# Altium footprint library UCC28180-V04.PcbLib: 54 footprints (part 1 of 4)
Each footprint in its own frame and in the unit in brackets; x right, y up, seen from the top. Pads: shape width x height; smd on the part's side, far side on the other; paste and mask are expansions set on the pad; w line width, h text height; cw(c..) or ccw(c..) is an arc to the next point about the centre after c.
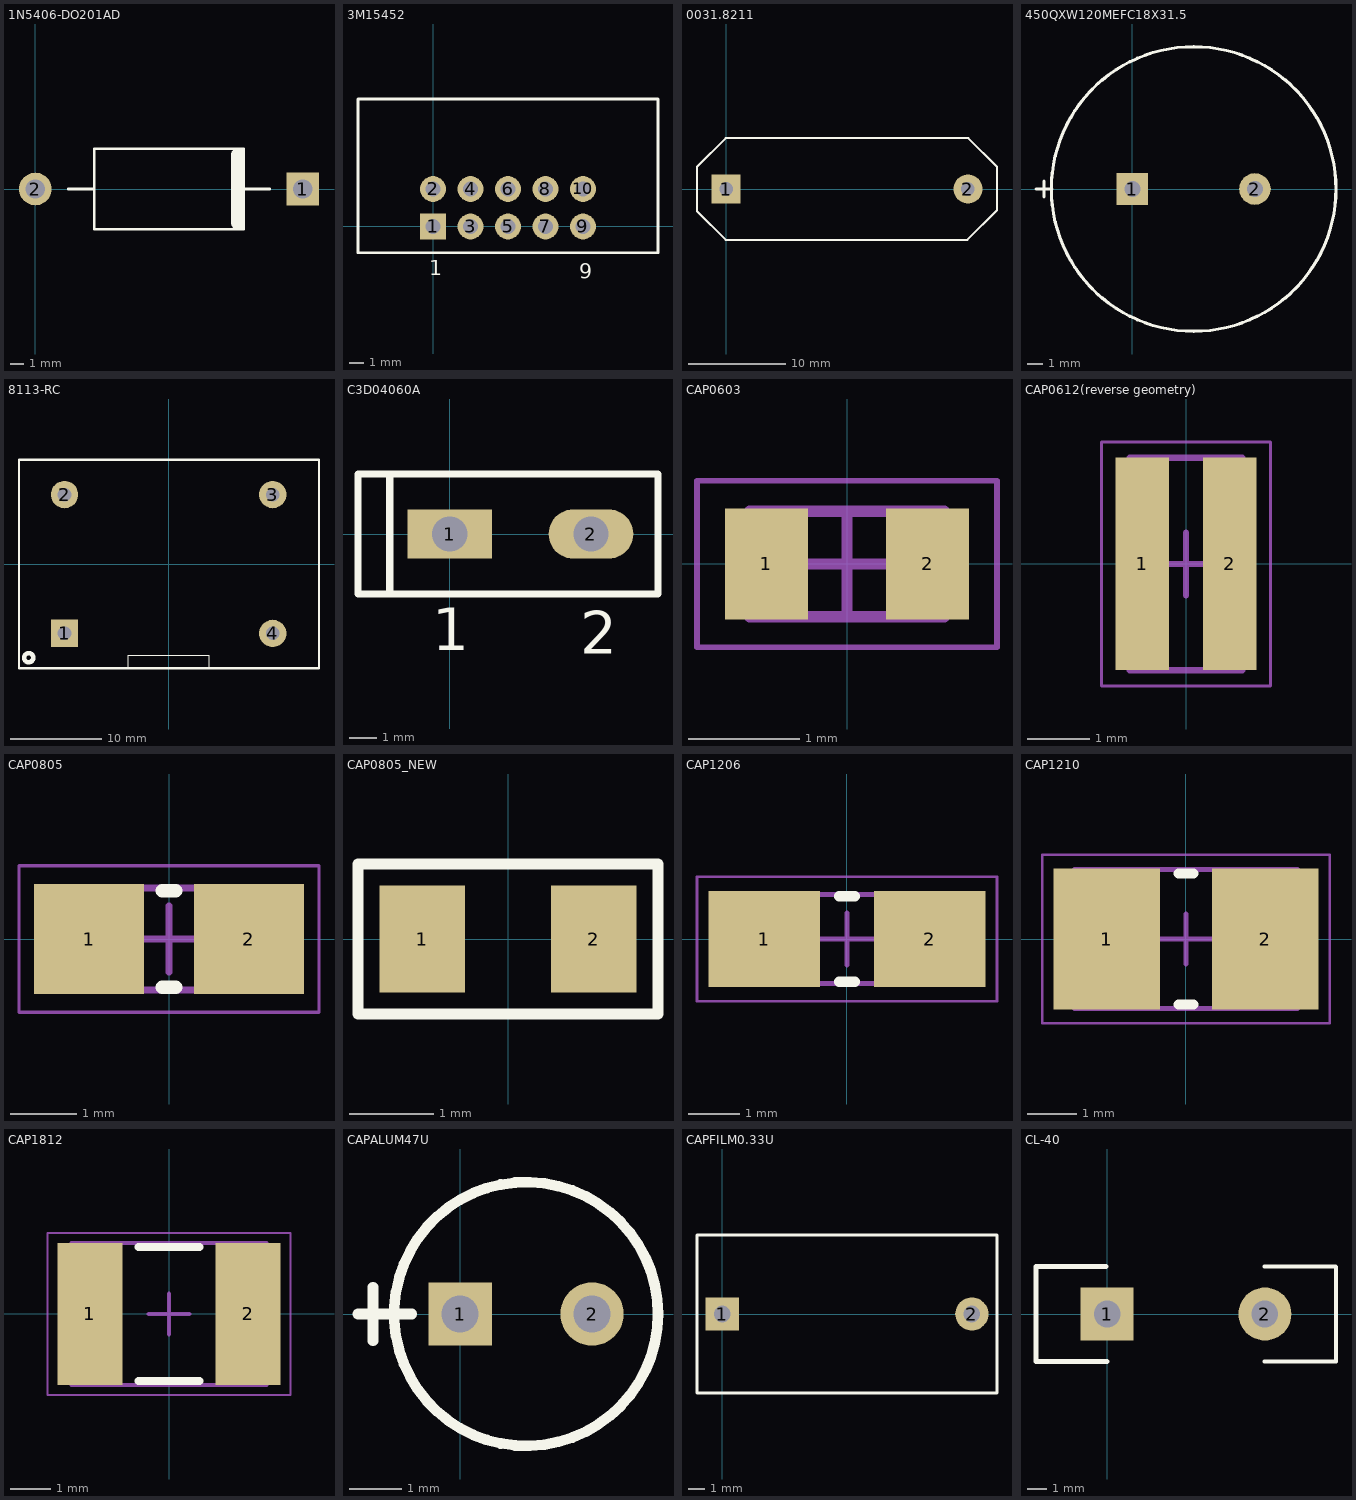
[diagram p0: the footprints below, top view; thin cyan lines are the x and y axes]

## 1N5406-DO201AD [mm] "Diode"
pads (2):
  rect 2.45x2.45 hole 1.45: 1(20,0)
  round 2.45 hole 1.45: 2(0,0)
Top Overlay:
  lines w0.2: 2.45,0 4.4,0 ; 15.6,0 17.55,0 ; 4.4,0 4.4,3 15.6,3 15.6,-3 4.4,-3 4.4,0
  lines w1: 15.15,-2.543 15.15,2.565

## 3M15452 [mm] "CONN HEADER 10POS DL R/A GOLD"
pads (10):
  rect 1.75x1.75 hole 1: 1(0,0)
  round 1.75 hole 1: 2(0,2.54) 3(2.54,0) 4(2.54,2.54) 5(5.08,0) 6(5.08,2.54) 7(7.62,0) 8(7.62,2.54) 9(10.16,0) 10(10.16,2.54)
Top Overlay:
  lines w0.2: -5.08,-1.778 15.24,-1.778 15.24,8.636 -5.08,8.636 -5.08,-1.778
  text "1" at -0.254,-3.302 h1.02
  text "9" at 9.906,-3.556 h1.02

## 0031.8211 [mm] "Fuse Holder"
height 10
pads (2):
  rect 3x3 hole 1.4: 1(0,0)
  round 3 hole 1.4: 2(25,0)
Top Overlay:
  lines w0.2: -3,-2.3 -3,-1 -3,2.3 -0.05,5.25 14.8,5.25 25.05,5.25 28,2.3 28,2 28,-2.2 24.95,-5.25 20,-5.25 5,-5.25 -0.05,-5.25 -3,-2.3
3D body "696103201002.stp": height 11.51, standoff -4.09, extent 0.803,-4.623 24.902,4.977

## 450QXW120MEFC18X31.5 [mm] "Radial Electrolytic Capacitor"
pads (2):
  rect 2x2 hole 1: 1(0,0)
  round 2 hole 1: 2(7.75,0)
Top Overlay:
  circle w0.2: c3.875,0 r9
  lines w0.2: -6.096,0 -5.08,0 ; -5.588,-0.508 -5.588,0.508
3D body "G-18X40.stp": height 39.75, standoff -27.28, extent -5.239,-9.25 12.961,8.945

## 8113-RC [mm] "EMI Choke"
pads (4):
  rect 3x3 hole 1.5: 1(-11.43,-7.62)
  round 3 hole 1.5: 2(-11.43,7.62) 3(11.43,7.62) 4(11.43,-7.62)
Top Overlay:
  circle w0.5: c-15.367,-10.287 r0.5
  lines w0.08: -4.445,-11.43 -4.445,-10.033 0.127,-10.033 4.445,-10.033 4.445,-11.43
  lines w0.254: -16.43,-11.43 -16.43,11.43 16.51,11.43 16.51,-11.43 -16.43,-11.43

## C3D04060A [mm] "Schotky diode"
pads (2):
  rect 3.048x1.77 hole 1.27: 1(0,0)
  oval 3.048x1.77 hole 1.27: 2(5.08,0)
Top Overlay:
  lines w0.254: -2.413,2.159 7.493,2.159 7.493,-2.159 -3.302,-2.159 -3.302,2.159 -2.159,2.159 -2.159,-2.159
  text "2" at 4.699,-4.318 h1.52
  text "1" at -0.635,-4.191 h1.52

## CAP0603 [mm]
height 0.5
pads (2):
  rect 0.75x1 smd: 1(-0.725,0) 2(0.725,0)
Mechanical 13:
  lines w0.1: -0.875,-0.475 0.875,-0.475 0.875,0.475 -0.875,0.475 -0.875,-0.475
Mechanical 15:
  lines w0.05: -1.35,-0.75 1.35,-0.75 1.35,0.75 -1.35,0.75 -1.35,-0.75
  lines w0.1: -0.475,0 0.475,0 ; 0,-0.475 0,0.475
3D body: height 0.5, standoff 0, extent 0.525,-0.475 0.875,0.475
3D body: height 0.5, standoff 0, extent -0.875,-0.475 -0.525,0.475
3D body: height 0.5, standoff 0, extent -0.525,-0.475 0.525,0.475

## CAP0612(reverse geometry) [mm]
height 0.22
pads (2):
  rect 0.85x3.4 smd: 1(-0.7,0) 2(0.7,0)
Mechanical 13:
  lines w0.1: -0.9,-1.7 -0.9,1.7 0.9,1.7 0.9,-1.7 -0.9,-1.7
Mechanical 15:
  lines w0.05: -1.35,-1.95 -1.35,1.95 1.35,1.95 1.35,-1.95 -1.35,-1.95
  lines w0.1: -0.5,0 0.5,0 ; 0,-0.5 0,0.5
3D body: height 0.22, standoff 0, extent -0.49,-1.7 0.49,1.7
3D body: height 0.22, standoff 0, extent -0.9,-1.7 -0.49,1.7
3D body: height 0.22, standoff 0, extent 0.49,-1.7 0.9,1.7

## CAP0805 [mm] "Ceramic Capacitor"
height 2
pads (2):
  rect 1.65x1.65 smd: 1(-1.2,0) 2(1.2,0)
Top Overlay:
  lines w0.2: -0.1,-0.725 0.1,-0.725 ; -0.1,0.725 0.1,0.725
Mechanical 13:
  lines w0.1: -1.6,-0.765 -1.6,0.765 1.6,0.765 1.6,-0.765 -1.6,-0.765
Mechanical 15:
  lines w0.05: -2.25,-1.1 -2.25,1.1 2.25,1.1 2.25,-1.1 -2.25,-1.1
  lines w0.1: -0.5,0 0.5,0 ; 0,-0.5 0,0.5
3D body: height 2, standoff 0, extent -0.46,-0.765 0.46,0.765
3D body: height 2, standoff 0, extent -1.6,-0.765 -0.46,0.765
3D body: height 2, standoff 0, extent 0.46,-0.765 1.6,0.765

## CAP0805_NEW [mil] "SMD_Capacitor"
pads (2):
  rect 40x50 smd: 1(-40,0) 2(40,0)
Top Overlay:
  lines w5: -70,-35 -70,35 70,35 70,-35 -70,-35
3D body: height 26, standoff 0, extent 24,-25 40,25
3D body: height 26, standoff 0, extent -41,-25 -25,25
3D body: height 25, standoff 0, extent -40,-24 39,24
3D body: height 23, standoff 22, extent 10.5,-15 18,0
3D body: height 23, standoff 22, extent 0.5,-15 8,0
3D body: height 23, standoff 22, extent -29.5,-15 -22,0
3D body: height 23, standoff 22, extent -9.5,-15 -2,0
3D body: height 23, standoff 22, extent -5,2.5 2.5,17.5
3D body: height 23, standoff 22, extent -15,2.5 -7.5,17.5
3D body: height 23, standoff 22, extent -25,2.5 -17.5,17.5
3D body: height 23, standoff 22, extent -35,2.5 -27.5,17.5
3D body: height 23, standoff 22, extent -19.5,-15 -12,0
3D body: height 23, standoff 22, extent 5,2.5 12.5,17.5
3D body: height 23, standoff 22, extent 15,2.5 22.5,17.5

## CAP1206 [mm] "Ceramic Capacitor"
height 2
pads (2):
  rect 2.15x1.85 smd: 1(-1.6,0) 2(1.6,0)
Top Overlay:
  lines w0.2: -0.15,-0.825 0.15,-0.825 ; -0.15,0.825 0.15,0.825
Mechanical 13:
  lines w0.1: -2.25,-0.86 2.25,-0.86 2.25,0.86 -2.25,0.86 -2.25,-0.86
Mechanical 15:
  lines w0.05: -2.9,-1.2 2.9,-1.2 2.9,1.2 -2.9,1.2 -2.9,-1.2
  lines w0.1: -0.5,0 0.5,0 ; 0,-0.5 0,0.5
3D body: height 2, standoff 0, extent 0.6,-0.86 2.25,0.86
3D body: height 2, standoff 0, extent -2.25,-0.86 -0.6,0.86
3D body: height 2, standoff 0, extent -0.6,-0.86 0.6,0.86

## CAP1210 [mm] "Capacitor"
pads (2):
  rect 2.15x2.85 smd: 1(-1.6,0) 2(1.6,0)
Top Overlay:
  lines w0.2: -0.15,-1.325 0.15,-1.325 ; -0.15,1.325 0.15,1.325
Mechanical 13:
  lines w0.1: -2.25,-1.4 -2.25,1.4 2.25,1.4 2.25,-1.4 -2.25,-1.4
Mechanical 15:
  lines w0.05: -2.9,-1.7 -2.9,1.7 2.9,1.7 2.9,-1.7 -2.9,-1.7
  lines w0.1: -0.5,0 0.5,0 ; 0,-0.5 0,0.5
3D body: height 2, standoff 0, extent 0.6,-1.4 2.25,1.4
3D body: height 2, standoff 0, extent -0.6,-1.4 0.6,1.4
3D body: height 2, standoff 0, extent -2.25,-1.4 -0.6,1.4

## CAP1812 [mm] "Capacitor"
height 0.7
pads (2):
  rect 1.6x3.5 smd: 1(-1.95,0) 2(1.95,0)
Top Overlay:
  lines w0.2: -0.75,-1.65 0.75,-1.65 ; -0.75,1.65 0.75,1.65
Mechanical 13:
  lines w0.1: -2.4,-1.75 2.4,-1.75 2.4,1.75 -2.4,1.75 -2.4,-1.75
Mechanical 15:
  lines w0.05: -3,-2 3,-2 3,2 -3,2 -3,-2
  lines w0.1: -0.5,0 0.5,0 ; 0,-0.5 0,0.5
3D body: height 0.7, standoff 0, extent 1.8,-1.75 2.4,1.75
3D body: height 0.7, standoff 0, extent -2.4,-1.75 -1.8,1.75
3D body: height 0.7, standoff 0, extent -1.8,-1.75 1.8,1.75

## CAPALUM47U [mm] "Aluminum Capacitor"
pads (2):
  rect 1.2x1.2 hole 0.7: 1(0,0)
  round 1.2 hole 0.7: 2(2.5,0)
Top Overlay:
  circle w0.2: c1.25,0 r2.5
  lines w0.2: -1.935,0 -0.919,0 ; -1.651,-0.508 -1.651,0.508
3D body "G-5X11.stp": height 11.5, standoff -23.65, extent -1.381,-2.54 3.819,2.659

## CAPFILM0.33U [mm] "Film Capacitor"
pads (2):
  rect 2x2 hole 1: 1(0,0)
  round 2 hole 1: 2(15,0)
Top Overlay:
  lines w0.2: -1.524,-4.75 16.51,-4.75 16.51,4.75 -0.254,4.75 -1.524,4.75 -1.524,-4.75

## CL-40 [mm] "NTC Thermistor"
pads (2):
  rect 2.8x2.8 hole 1.4: 1(0,0)
  round 2.8 hole 1.4: 2(8.33,0)
Top Overlay:
  lines w0.2: 8.295,-2.5 12.08,-2.5 12.08,2.489 12.069,2.5 8.295,2.5
  lines w0.254: -0.04,2.5 -3.75,2.5 -3.75,-2.5 0,-2.5